# EAGLE library part PH_S7B-PH (library CASE-JST)
JST PH Connector, through hole, 7 pin, side entry Description: JST PH connector with 2.0 mm pitch, through hole version, 7 pin, side entry. Links: Datasheet <http://www.jst-mfg.com/product/pdf/eng/ePH.pdf>
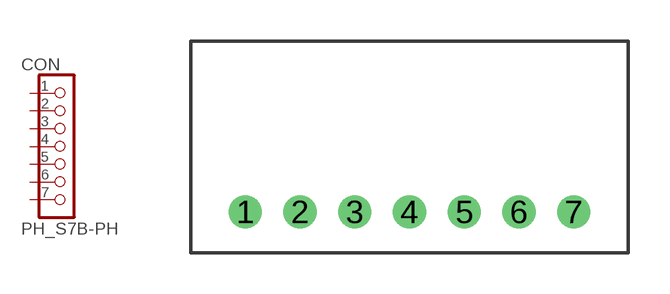
[diagram p20: symbol with the pads of S7B-PH; footprint S7B-PH]

Designator prefix CON

## PH_S7B-PH  [S7B-PH]
1  1  pas
2  2  pas
3  3  pas
4  4  pas
5  5  pas
6  6  pas
7  7  pas

## Footprint S7B-PH (pad centres in mm)
JST S7B-PH Datasheet <http://www.jst-mfg.com/product/pdf/eng/ePH.pdf>
drill 0.7: 1 -6,0; 2 -4,0; 3 -2,0; 4 0,0; 5 2,0; 6 4,0; 7 6,0